# EAGLE library part SWITCH-6PIN-LOCK-2.0MM (library Itead-misc)
BAS017
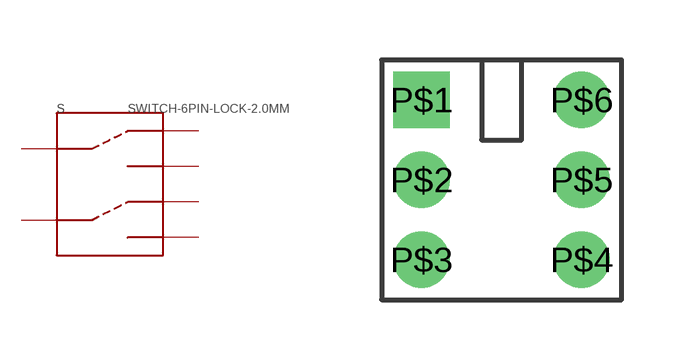
[diagram p27: symbol with the pads of SWITCH-6PIN-LOCK-2.0MM; footprint SWITCH-6PIN-LOCK-2.0MM]

Designator prefix S

## SWITCH-6PIN-LOCK-2.0MM  [SWITCH-6PIN-LOCK-2.0MM]
P$1  P$1
P$2  P$2
P$3  P$3
P$4  P$4
P$5  P$5
P$6  P$6

## Footprint SWITCH-6PIN-LOCK-2.0MM (pad centres in mm)
drill 0.9 square: P$1 0,0
drill 0.9 round: P$2 0,-2; P$3 0,-4; P$4 4,-4; P$5 4,-2; P$6 4,0